# Altium schematic symbol library ADS1271.SchLib: 1 symbol
Pins are listed as number, name and electrical type; pins without a type are passive.

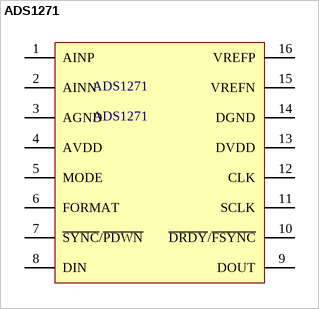
[diagram p0: symbol ADS1271]

## ADS1271
designator ADS1271
footprint ADS1271
pins: 1 AINP, 2 AINN, 3 AGND, 4 AVDD, 5 MODE, 6 FORMAT, 7 ~{SYNC}/~{PDWN}, 8 DIN, 9 DOUT, 10 ~{DRDY}/~{FSYNC}, 11 SCLK, 12 CLK, 13 DVDD, 14 DGND, 15 VREFN, 16 VREFP